# Altium footprint library LEO_antennas.PcbLib: 1 footprints
Each footprint in its own frame and in the unit in brackets; x right, y up, seen from the top. Pads: shape width x height; smd on the part's side, far side on the other; paste and mask are expansions set on the pad; w line width, h text height; cw(c..) or ccw(c..) is an arc to the next point about the centre after c.
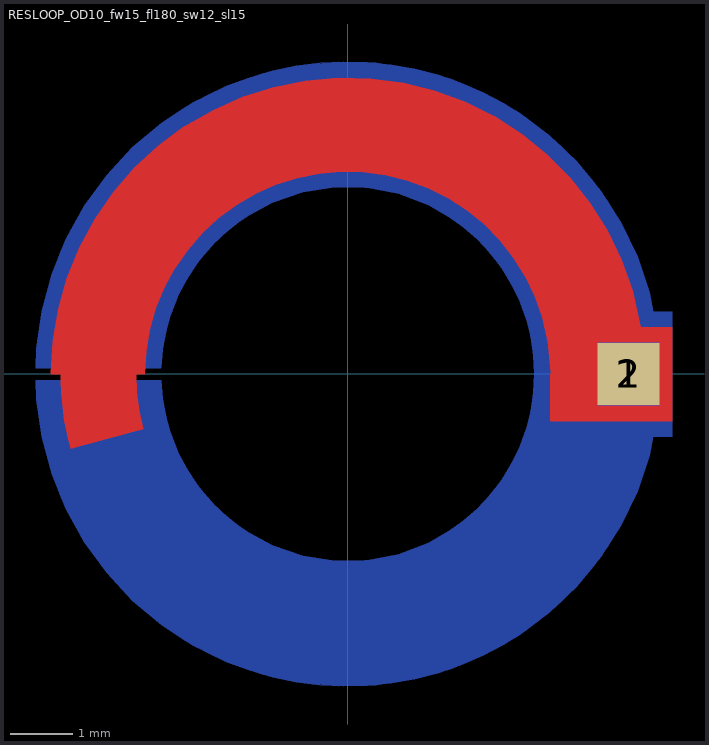
[diagram p0: the footprint, top view; thin cyan lines are the x and y axes]

## RESLOOP_OD10_fw15_fl180_sw12_sl15 [mm] "Microstrip resonant planar loop"
pads (2):
  rect 1x1 smd mask+0.102: 1(4.5,0)
  rect 1x1 smd far side mask+0.102: 2(4.5,0)
Top Layer:
  region: -4.75,0 -4.6,0 -4.6,-0.151 -4.58,-0.451 -4.541,-0.75 -4.482,-1.045 -4.443,-1.191 -3.284,-0.88 -3.311,-0.772 -3.355,-0.554 -3.384,-0.333 -3.398,-0.111 -3.4,0 -3.25,0 -3.23,0.356 -3.172,0.709 -3.075,1.052 -2.941,1.383 -2.772,1.697 -2.569,1.991 -2.335,2.261 -2.073,2.503 -1.786,2.715 -1.477,2.895 -1.151,3.039 -0.81,3.147 -0.46,3.217 -0.105,3.248 0.252,3.24 0.606,3.193 0.953,3.107 1.288,2.984 1.607,2.825 1.907,2.632 2.184,2.406 2.435,2.152 2.656,1.872 2.846,1.57 3.001,1.248 3.12,0.912 3.208,0.52 3.248,0.12 3.25,0.009 3.25,-0.003 3.25,-0.75 5.2,-0.75 5.2,0.75 4.69,0.75 4.559,1.332 4.386,1.824 4.159,2.294 3.882,2.737 3.559,3.146 3.192,3.517 2.787,3.846 2.349,4.129 1.882,4.361 1.392,4.541 0.886,4.667 0.368,4.736 -0.153,4.748 -0.673,4.702 -1.185,4.6 -1.682,4.442 -2.159,4.231 -2.61,3.969 -3.029,3.659 -3.412,3.304 -3.754,2.91 -4.051,2.481 -4.298,2.021 -4.494,1.538 -4.636,1.036 -4.721,0.521
  lines w0.013: -4.75,0 -4.721,0.521 -4.636,1.036 -4.494,1.538 -4.298,2.021 -4.051,2.481 -3.754,2.91 -3.412,3.304 -3.029,3.659 -2.61,3.969 -2.159,4.231 -1.682,4.442 -1.185,4.6 -0.673,4.702 -0.153,4.748 0.368,4.736 0.886,4.667 1.392,4.541 1.882,4.361 2.349,4.129 2.787,3.846 3.192,3.517 3.559,3.146 3.882,2.737 4.159,2.294 4.386,1.824 4.559,1.332 4.69,0.75 5.2,0.75 5.2,-0.75 3.25,-0.75 3.25,-0.401 3.25,-0.072 3.25,-0.017 3.25,-0.003 3.25,0.009 3.248,0.12 3.208,0.52 3.12,0.912 3.001,1.248 2.846,1.57 2.656,1.872 2.435,2.152 2.184,2.406 1.907,2.632 1.607,2.825 1.288,2.984 0.953,3.107 0.606,3.193 0.252,3.24 -0.105,3.248 -0.46,3.217 -0.81,3.147 -1.151,3.039 -1.477,2.895 -1.786,2.715 -2.073,2.503 -2.335,2.261 -2.569,1.991 -2.772,1.697 -2.941,1.383 -3.075,1.052 -3.172,0.709 -3.23,0.356 -3.25,0 -3.4,0 ccw(c0,0) -3.284,-0.88 -4.443,-1.191 cw(c0,0) -4.6,0 -4.75,0
Bottom Layer:
  region: -4.999,-0.1 -2.998,-0.1 -2.979,-0.358 -2.873,-0.865 -2.681,-1.345 -2.41,-1.786 -2.068,-2.174 -1.663,-2.497 -1.21,-2.745 -0.72,-2.912 -0.209,-2.993 0.308,-2.984 0.817,-2.887 1.3,-2.703 1.746,-2.44 2.139,-2.104 2.469,-1.705 2.725,-1.255 2.9,-0.768 2.989,-0.259 2.989,0.259 2.9,0.768 2.725,1.255 2.469,1.705 2.139,2.104 1.746,2.44 1.3,2.703 0.817,2.887 0.308,2.984 -0.209,2.993 -0.72,2.912 -1.21,2.745 -1.663,2.497 -2.068,2.174 -2.41,1.786 -2.681,1.345 -2.873,0.865 -2.979,0.358 -2.998,0.1 -4.999,0.1 -4.993,0.405 -4.907,1.008 -4.748,1.596 -4.52,2.16 -4.224,2.693 -3.866,3.186 -3.451,3.631 -2.984,4.023 -2.474,4.356 -1.927,4.624 -1.352,4.823 -0.756,4.952 -0.149,5.007 0.459,4.988 1.061,4.896 1.648,4.73 2.21,4.496 2.739,4.194 3.228,3.831 3.669,3.41 4.056,2.94 4.383,2.426 4.645,1.876 4.838,1.298 4.899,1 5.2,1 5.2,-1 4.899,-1 4.838,-1.298 4.645,-1.876 4.383,-2.426 4.056,-2.94 3.669,-3.41 3.228,-3.831 2.739,-4.194 2.21,-4.496 1.648,-4.73 1.061,-4.896 0.459,-4.988 -0.149,-5.007 -0.756,-4.952 -1.352,-4.823 -1.927,-4.624 -2.474,-4.356 -2.984,-4.023 -3.451,-3.631 -3.866,-3.186 -4.224,-2.693 -4.52,-2.16 -4.748,-1.596 -4.907,-1.008 -4.993,-0.405
  lines w0.013: -4.999,-0.1 ccw(c0,0) 4.899,-1 5.2,-1 5.2,1 4.899,1 ccw(c0,0) -4.999,0.1 -2.998,0.1 cw(c0,0) -2.998,-0.1 -4.999,-0.1